# EAGLE library part AGLN060V5 (library ICs)
IGLOO nano Low Power Flash FPGA with Flash*Freeze Technology, 60k gates, 71 IO.
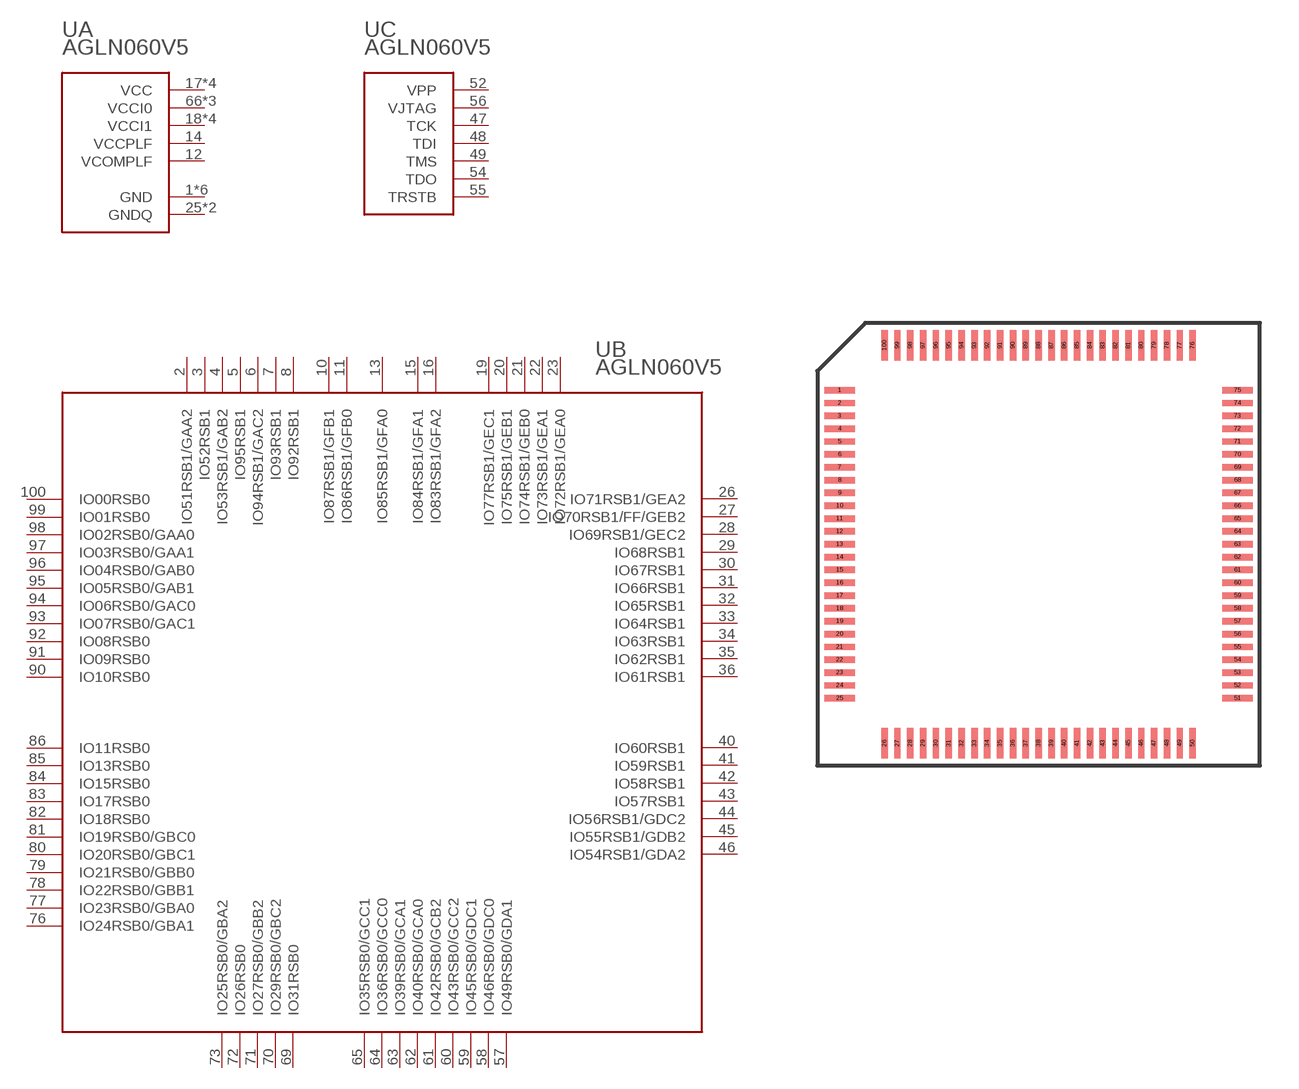
[diagram p37: symbol with the pads of QFP100; footprint QFP100]

Designator prefix U; gates B=AGLN060_IO A=AGLN060_PWR C=AGLN060_JTAG

## AGLN060V5VQG100 (DIGIKEY: 1100-1130-ND)  [QFP100]
1  A:GND
2  B:IO51RSB1/GAA2
3  B:IO52RSB1
4  B:IO53RSB1/GAB2
5  B:IO95RSB1
6  B:IO94RSB1/GAC2
7  B:IO93RSB1
8  B:IO92RSB1
9  A:GND
10  B:IO87RSB1/GFB1
11  B:IO86RSB1/GFB0
12  A:VCOMPLF
13  B:IO85RSB1/GFA0
14  A:VCCPLF
15  B:IO84RSB1/GFA1
16  B:IO83RSB1/GFA2
17  A:VCC
18  A:VCCI1
19  B:IO77RSB1/GEC1
20  B:IO75RSB1/GEB1
21  B:IO74RSB1/GEB0
22  B:IO73RSB1/GEA1
23  B:IO72RSB1/GEA0
24  A:VCCI1
25  A:GNDQ
26  B:IO71RSB1/GEA2
27  B:IO70RSB1/FF/GEB2
28  B:IO69RSB1/GEC2
29  B:IO68RSB1
30  B:IO67RSB1
31  B:IO66RSB1
32  B:IO65RSB1
33  B:IO64RSB1
34  B:IO63RSB1
35  B:IO62RSB1
36  B:IO61RSB1
37  A:VCC
38  A:GND
39  A:VCCI1
40  B:IO60RSB1
41  B:IO59RSB1
42  B:IO58RSB1
43  B:IO57RSB1
44  B:IO56RSB1/GDC2
45  B:IO55RSB1/GDB2
46  B:IO54RSB1/GDA2
47  C:TCK
48  C:TDI
49  C:TMS
50  A:VCCI1
51  A:GND
52  C:VPP
54  C:TDO
55  C:TRSTB
56  C:VJTAG
57  B:IO49RSB0/GDA1
58  B:IO46RSB0/GDC0
59  B:IO45RSB0/GDC1
60  B:IO43RSB0/GCC2
61  B:IO42RSB0/GCB2
62  B:IO40RSB0/GCA0
63  B:IO39RSB0/GCA1
64  B:IO36RSB0/GCC0
65  B:IO35RSB0/GCC1
66  A:VCCI0
67  A:GND
68  A:VCC
69  B:IO31RSB0
70  B:IO29RSB0/GBC2
71  B:IO27RSB0/GBB2
72  B:IO26RSB0
73  B:IO25RSB0/GBA2
74  A:VCCI0
75  A:GNDQ
76  B:IO24RSB0/GBA1
77  B:IO23RSB0/GBA0
78  B:IO22RSB0/GBB1
79  B:IO21RSB0/GBB0
80  B:IO20RSB0/GBC1
81  B:IO19RSB0/GBC0
82  B:IO18RSB0
83  B:IO17RSB0
84  B:IO15RSB0
85  B:IO13RSB0
86  B:IO11RSB0
87  A:VCCI0
88  A:GND
89  A:VCC
90  B:IO10RSB0
91  B:IO09RSB0
92  B:IO08RSB0
93  B:IO07RSB0/GAC1
94  B:IO06RSB0/GAC0
95  B:IO05RSB0/GAB1
96  B:IO04RSB0/GAB0
97  B:IO03RSB0/GAA1
98  B:IO02RSB0/GAA0
99  B:IO01RSB0
100  B:IO00RSB0

## Footprint QFP100 (pad centres in mm)
smd 1.2 x 0.25: 1 -7.75,6; 2 -7.75,5.5; 3 -7.75,5; 4 -7.75,4.5; 5 -7.75,4; 6 -7.75,3.5; 7 -7.75,3; 8 -7.75,2.5; 9 -7.75,2; 10 -7.75,1.5; 11 -7.75,1; 12 -7.75,0.5; 13 -7.75,0; 14 -7.75,-0.5; 15 -7.75,-1; 16 -7.75,-1.5; 17 -7.75,-2; 18 -7.75,-2.5; 19 -7.75,-3; 20 -7.75,-3.5; 21 -7.75,-4; 22 -7.75,-4.5; 23 -7.75,-5; 24 -7.75,-5.5; 25 -7.75,-6; 51 7.75,-6; 52 7.75,-5.5; 53 7.75,-5; 54 7.75,-4.5; 55 7.75,-4; 56 7.75,-3.5; 57 7.75,-3; 58 7.75,-2.5; 59 7.75,-2; 60 7.75,-1.5; 61 7.75,-1; 62 7.75,-0.5; 63 7.75,0; 64 7.75,0.5; 65 7.75,1; 66 7.75,1.5; 67 7.75,2; 68 7.75,2.5; 69 7.75,3; 70 7.75,3.5; 71 7.75,4; 72 7.75,4.5; 73 7.75,5; 74 7.75,5.5; 75 7.75,6
smd 0.25 x 1.2: 26 -6,-7.75; 27 -5.5,-7.75; 28 -5,-7.75; 29 -4.5,-7.75; 30 -4,-7.75; 31 -3.5,-7.75; 32 -3,-7.75; 33 -2.5,-7.75; 34 -2,-7.75; 35 -1.5,-7.75; 36 -1,-7.75; 37 -0.5,-7.75; 38 0,-7.75; 39 0.5,-7.75; 40 1,-7.75; 41 1.5,-7.75; 42 2,-7.75; 43 2.5,-7.75; 44 3,-7.75; 45 3.5,-7.75; 46 4,-7.75; 47 4.5,-7.75; 48 5,-7.75; 49 5.5,-7.75; 50 6,-7.75; 76 6,7.75; 77 5.5,7.75; 78 5,7.75; 79 4.5,7.75; 80 4,7.75; 81 3.5,7.75; 82 3,7.75; 83 2.5,7.75; 84 2,7.75; 85 1.5,7.75; 86 1,7.75; 87 0.5,7.75; 88 0,7.75; 89 -0.5,7.75; 90 -1,7.75; 91 -1.5,7.75; 92 -2,7.75; 93 -2.5,7.75; 94 -3,7.75; 95 -3.5,7.75; 96 -4,7.75; 97 -4.5,7.75; 98 -5,7.75; 99 -5.5,7.75; 100 -6,7.75